# Altium schematic symbol library AP2112K-3.3TRG1.SchLib: 1 symbol
Pins are listed as number, name and electrical type; pins without a type are passive.

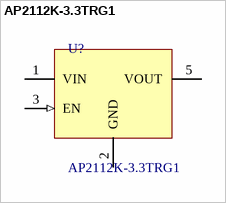
[diagram p0: symbol AP2112K-3.3TRG1]

## AP2112K-3.3TRG1
designator U?
AP2112 Series 0.6 A 3.3 V Fixed Output SMT LDO Linear Regulator - SOT23-5; MF: Diodes Inc.; Package: SOT-753 Diodes Inc.; Digi-Key_Part_Number: AP2112K-3.3TRG1DICT-ND; MP: AP2112K-3.3TRG1; Digi-Key_Purchase_URL: https://www.digikey.com/product-detail/en/diodes-incorporated/AP2112K-3.3TRG1/AP2112K-3.3TRG1DICT-ND/4505257?utm_source=snapeda&utm_medium=aggregator&utm_campaign=symbol; SnapEDA_Link: https://www.snapeda.com/parts/AP2112K-3.3TRG1/Diodes%20Inc./view-part/?ref=snap; Value: *
footprint AP2112_SOT-25 (Footprint not found)
pins: 1 VIN (power), 2 GND (power), 3 EN (in), 5 VOUT (power)